# EAGLE library part DAC6571IDBVT (library DAC6571IDBVT)
Texas Instruments DAC6571IDBVT, 10 bit Serial DAC, 188ksps, 6-Pin SOT-23 Source: Datasheet <http://www.ti.com/lit/gpn/dac6571>
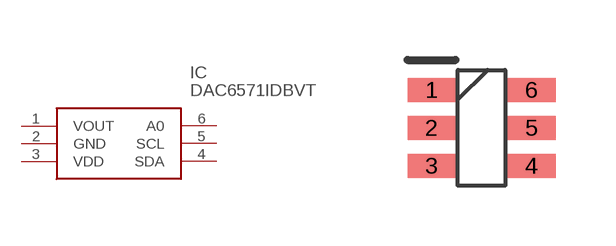
[diagram p0: symbol with the pads of SOT95P280X145-6N; footprint SOT95P280X145-6N]

Designator prefix IC

## DAC6571IDBVT (DESCRIPTION: Texas Instruments DAC6571IDBVT, 10 bit Serial DAC, 188ksps, 6-Pin SOT-23; HEIGHT: 1.45mm; MANUFACTURER_NAME: Texas Instruments; MANUFACTURER_PART_NUMBER: DAC6571IDBVT; MOUSER_PART_NUMBER: 595-DAC6571IDBVT; MOUSER_PRICE-STOCK: https://www.mouser.co.uk/ProductDetail/Texas-Instruments/DAC6571IDBVT?qs=vul0MlC%2Fa1dqpnhoFf%252B88g%3D%3D)  [SOT95P280X145-6N]
1  VOUT
2  GND
3  VDD
4  SDA
5  SCL
6  A0

## Footprint SOT95P280X145-6N (pad centres in mm)
DBV0006A
smd 1.2 x 0.6: 1 -1.25,0.95; 2 -1.25,0; 3 -1.25,-0.95; 4 1.25,-0.95; 5 1.25,0; 6 1.25,0.95